# EAGLE library part SF2136E (library kj4qlp)
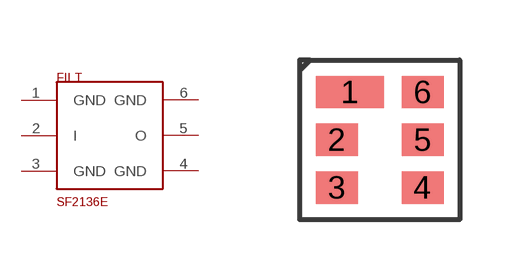
[diagram p5: symbol with the pads of SM3030-6; footprint SM3030-6]

Designator prefix FILT

## SF2136E  [SM3030-6]
1  GND
2  I
3  GND
4  GND
5  O
6  GND

## Footprint SM3030-6 (pad centres in mm)
smd 1.7 x 0.81: 1 -0.75,1.195
smd 1.05 x 0.81: 2 -1.075,0; 3 -1.075,-1.195; 4 1.075,-1.195; 5 1.075,0; 6 1.075,1.195